# Altium footprint library TPS6513_0603resistors.PcbLib: 1 footprints
Each footprint in its own frame and in the unit in brackets; x right, y up, seen from the top. Pads: shape width x height; smd on the part's side, far side on the other; paste and mask are expansions set on the pad; w line width, h text height; cw(c..) or ccw(c..) is an arc to the next point about the centre after c.
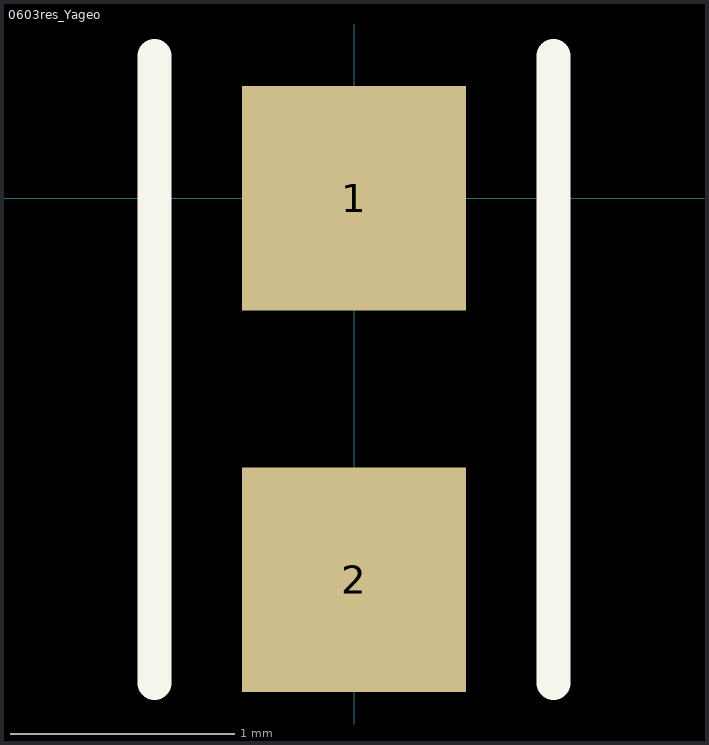
[diagram p0: the footprint, top view; thin cyan lines are the x and y axes]

## 0603res_Yageo [mm] "121K, 100, and 1M"
pads (2):
  rect 1x1 smd: 1(0,0) 2(0,-1.7)
Top Overlay:
  lines w0.15: -0.889,-2.159 -0.889,0.635 ; 0.889,-2.159 0.889,0.635